# Altium integrated library RT0603BRD0710K4L.IntLib: 1 symbol
Pins are listed as number, name and electrical type; pins without a type are passive.

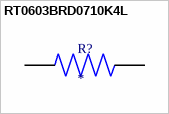
[diagram p0: symbol RT0603BRD0710K4L]

## RT0603BRD0710K4L
designator R?
MP: RT0603BRD0710K4L; Package: None; Price: None; Value: *; Availability: Unavailable
footprint RESC1608X55N
pins: 1, 2